# Altium footprint library JST_S5B-PH-K-S(LF)(SN).PcbLib: 1 footprints
Each footprint in its own frame and in the unit in brackets; x right, y up, seen from the top. Pads: shape width x height; smd on the part's side, far side on the other; paste and mask are expansions set on the pad; w line width, h text height; cw(c..) or ccw(c..) is an arc to the next point about the centre after c.
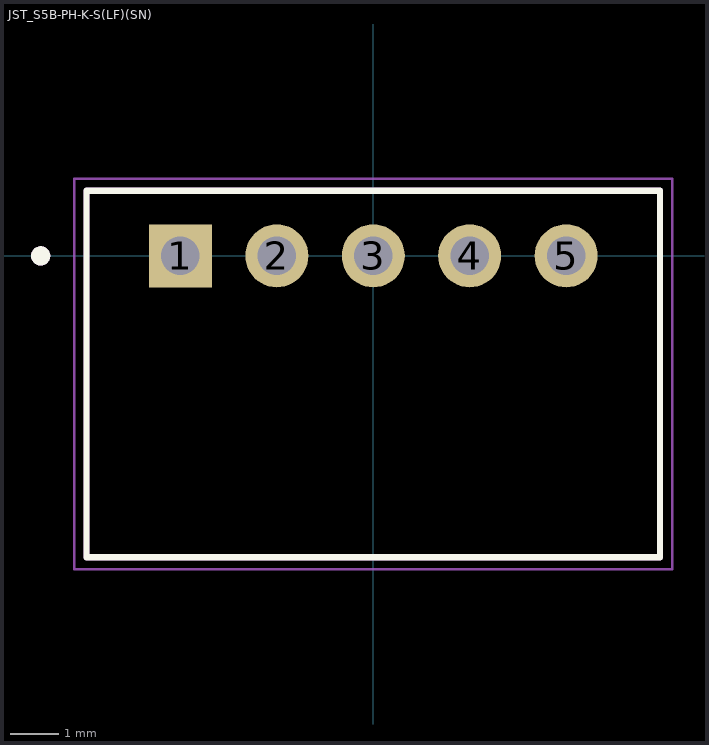
[diagram p0: the footprint, top view; thin cyan lines are the x and y axes]

## JST_S5B-PH-K-S(LF)(SN) [mm]
height 4.8
pads (5):
  rect 1.308x1.308 / inner round 1.308 / far side rect 1.308x1.308 hole 0.8: 1(-4,0)
  round 1.308 hole 0.8: 2(-2,0) 3(0,0) 4(2,0) 5(4,0)
Top Overlay:
  circle w0.2: c-6.9,0 r0.1
  lines w0.127: -5.95,-6.25 5.95,-6.25 5.95,1.35 -5.95,1.35 -5.95,-6.25
Mechanical 13:
  circle w0.2: c-6.9,0 r0.1
  lines w0.127: -5.95,-6.25 -5.95,1.35 5.95,1.35 5.95,-6.25 -5.95,-6.25
Mechanical 15:
  lines w0.05: -6.2,-6.5 -6.2,1.6 6.2,1.6 6.2,-6.5 -6.2,-6.5
3D body "step_temp.STEP": height 4.8, standoff -3.38, extent -2.95,-7.6 8.95,0